# Altium schematic symbol library MergenElektronik_Connectors_Headers.SchLib: 2 symbols
Pins are listed as number, name and electrical type; pins without a type are passive.

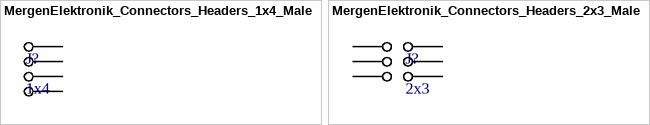
[diagram p0: symbols MergenElektronik_Connectors_Headers_1x4_Male to MergenElektronik_Connectors_Headers_2x3_Male]

## MergenElektronik_Connectors_Headers_1x4_Male
designator J?, comment 1x4
Mergen Elektronik - Connectors - Headers - 1x4 Male
footprint MergenElektronik_Connectors_Headers_1x4_Male (1x4 Male)
pins: 1, 2, 3, 4

## MergenElektronik_Connectors_Headers_2x3_Male
designator J?, comment 2x3
Mergen Elektronik - Connectors - Headers - 2x3 Male
footprint MergenElektronik_Connectors_Headers_2x3_Male (2x3 Male)
pins: 1, 2, 3, 4, 5, 6